# EAGLE library part CY7C1009B (library CY7C1009B)
128k x 8 Static RAM CYPRESS 13-05-2006 / MarioBlunk@gmx.net
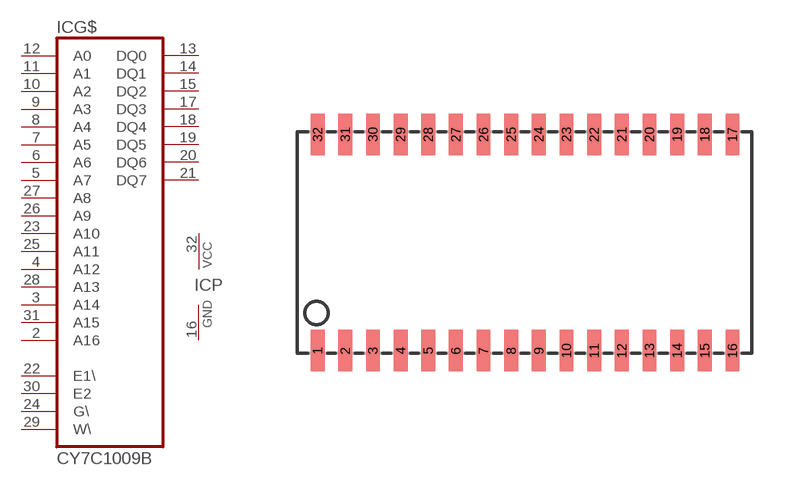
[diagram p0: symbol with the pads of SOJ32/4; footprint SOJ32/4]

Designator prefix IC; gates G$=CM6226A P=PWRN

## CY7C1009B  [SOJ32/4]
2  G$:A16  in
3  G$:A14  in
4  G$:A12  in
5  G$:A7  in
6  G$:A6  in
7  G$:A5  in
8  G$:A4  in
9  G$:A3  in
10  G$:A2  in
11  G$:A1  in
12  G$:A0  in
13  G$:DQ0
14  G$:DQ1
15  G$:DQ2
16  P:GND  pwr
17  G$:DQ3
18  G$:DQ4
19  G$:DQ5
20  G$:DQ6
21  G$:DQ7
22  G$:E1\  in
23  G$:A10  in
24  G$:G\  in
25  G$:A11  in
26  G$:A9  in
27  G$:A8  in
28  G$:A13  in
29  G$:W\  in
30  G$:E2  in
31  G$:A15  in
32  P:VCC  pwr

## Footprint SOJ32/4 (pad centres in mm)
Small Outline J-Bend
smd 0.635 x 1.905: 1 -8.89,-4.902; 2 -7.62,-4.902; 3 -6.35,-4.902; 4 -5.08,-4.902; 5 -3.81,-4.902; 6 -2.54,-4.902; 7 -1.27,-4.902; 8 0,-4.902; 9 1.27,-4.902; 10 2.54,-4.902; 11 3.81,-4.902; 12 5.08,-4.902; 13 6.35,-4.902; 14 7.62,-4.902; 15 8.89,-4.902; 16 10.16,-4.902; 17 10.16,5.029; 18 8.89,5.029; 19 7.62,5.029; 20 6.35,5.029; 21 5.08,5.029; 22 3.81,5.029; 23 2.54,5.029; 24 1.27,5.029; 25 0,5.029; 26 -1.27,5.029; 27 -2.54,5.029; 28 -3.81,5.029; 29 -5.08,5.029; 30 -6.35,5.029; 31 -7.62,5.029; 32 -8.89,5.029